# Altium footprint library NUC120全功能主板.PcbLib: 25 footprints (part 2 of 2)
Each footprint in its own frame and in the unit in brackets; x right, y up, seen from the top. Pads: shape width x height; smd on the part's side, far side on the other; paste and mask are expansions set on the pad; w line width, h text height; cw(c..) or ccw(c..) is an arc to the next point about the centre after c.
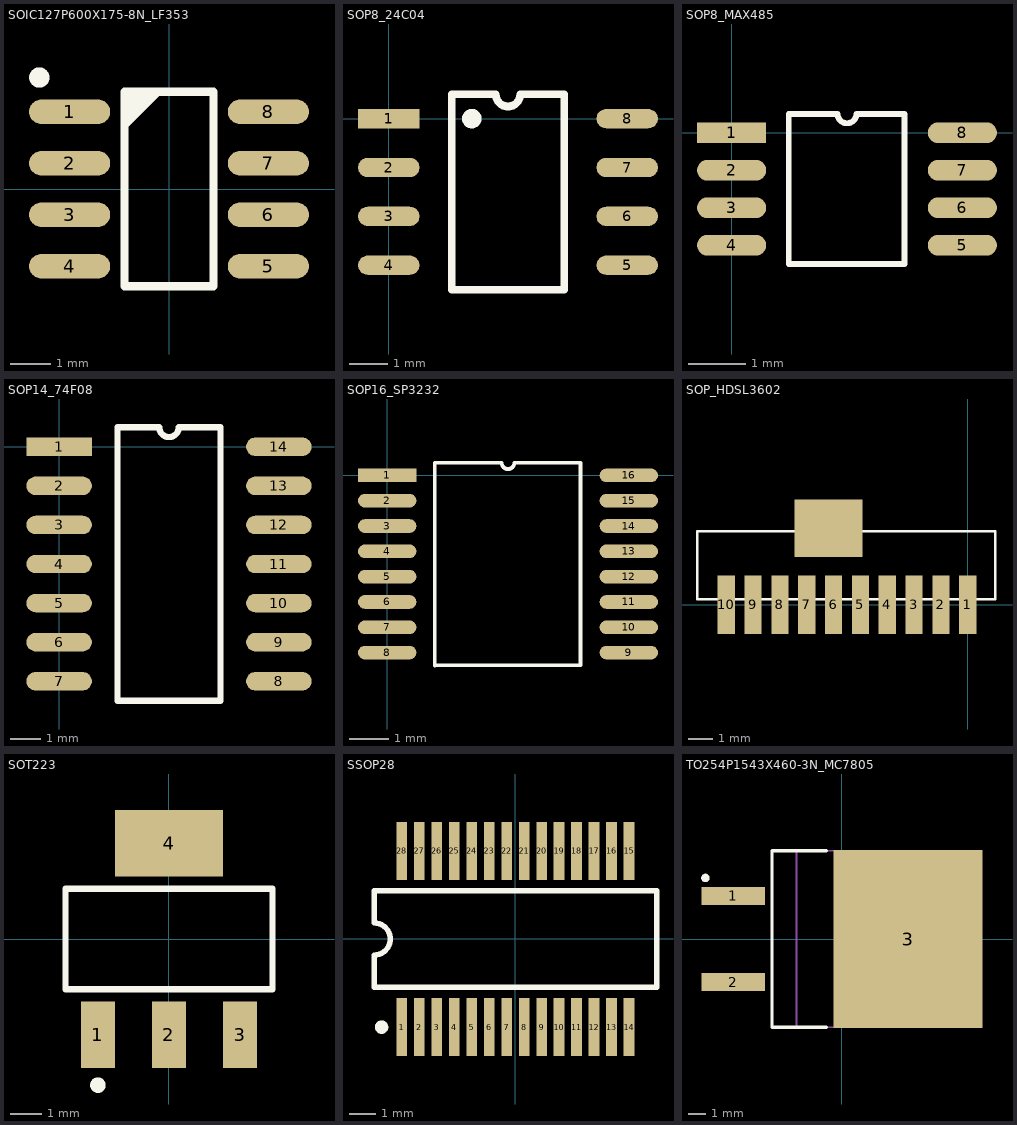
[diagram p1: the footprints below, top view; thin cyan lines are the x and y axes]

## SOIC127P600X175-8N_LF353 [mm]
pads (8):
  oval 2x0.6 smd: 1(-2.45,1.905) 2(-2.45,0.635) 3(-2.45,-0.635) 4(-2.45,-1.905) 5(2.45,-1.905) 6(2.45,-0.635) 7(2.45,0.635) 8(2.45,1.905)
Mid-Layer 2:
  lines w0.05: -0.5,0 0.5,0 ; 0,-0.5 0,0.5 ; -3.7,-2.65 3.7,-2.65 3.7,2.65 -3.7,2.65 -3.7,-2.65
Top Overlay:
  circle w0.25: c-3.2,2.75 r0.125
  lines w0.1: -1.1,1.5 -0.2,2.4 ; -1.1,1.6 -0.3,2.4 ; -1.1,1.7 -0.4,2.4 ; -1.1,1.8 -0.5,2.4 ; -1.1,1.9 -0.6,2.4 ; -1.1,2 -0.7,2.4 ; -1.1,2.1 -0.8,2.4 ; -1.1,2.2 -0.9,2.4 ; -1.1,2.3 -1,2.4
  lines w0.2: -1.1,-2.4 1.1,-2.4 1.1,2.4 -1.1,2.4 -1.1,-2.4

## SOP8_24C04 [mm]
pads (8):
  rect 1.6x0.5 smd: 1(0,0)
  oval 1.6x0.5 smd: 2(0,-1.27) 3(0,-2.54) 4(0,-3.81) 5(6.2,-3.81) 6(6.2,-2.54) 7(6.2,-1.27) 8(6.2,0)
Top Overlay:
  circle w0.254: c2.159,0 r0.127
  lines w0.2: 1.635,-4.445 4.565,-4.445 4.565,0.635 3.417,0.635 cw(c3.1,0.635) 2.782,0.635 1.635,0.635 1.635,-4.445

## SOP8_MAX485 [mm]
pads (8):
  rect 1.2x0.36 smd: 1(0,0)
  oval 1.2x0.36 smd: 2(0,-0.65) 3(0,-1.3) 4(0,-1.95) 5(4,-1.95) 6(4,-1.3) 7(4,-0.65) 8(4,0)
Top Overlay:
  lines w0.1: 0.991,-2.275 2.997,-2.275 2.997,0.325 2.162,0.325 cw(c2,0.325) 1.837,0.325 0.991,0.325 0.991,-2.275

## SOP14_74F08 [mm]
pads (14):
  rect 2.13x0.6 smd: 1(0,0)
  oval 2.13x0.6 smd: 2(0,-1.27) 3(0,-2.54) 4(0,-3.81) 5(0,-5.08) 6(0,-6.35) 7(0,-7.62) 8(7.14,-7.62) 9(7.14,-6.35) 10(7.14,-5.08) 11(7.14,-3.81) 12(7.14,-2.54) 13(7.14,-1.27) 14(7.14,0)
Top Overlay:
  lines w0.2: 1.9,-8.255 5.24,-8.255 5.24,0.635 3.888,0.635 cw(c3.57,0.635) 3.253,0.635 1.9,0.635 1.9,-8.255

## SOP16_SP3232 [mm]
pads (16):
  rect 1.5x0.35 smd: 1(0,0)
  oval 1.5x0.35 smd: 2(0,-0.65) 3(0,-1.3) 4(0,-1.95) 5(0,-2.6) 6(0,-3.25) 7(0,-3.9) 8(0,-4.55) 9(6.2,-4.55) 10(6.2,-3.9) 11(6.2,-3.25) 12(6.2,-2.6) 13(6.2,-1.95) 14(6.2,-1.3) 15(6.2,-0.65) 16(6.2,0)
Top Overlay:
  lines w0.1: 1.219,-4.877 1.219,0.323 ; 1.235,-4.875 4.965,-4.875 4.965,0.325 3.262,0.325 cw(c3.1,0.325) 2.937,0.325 1.235,0.325

## SOP_HDSL3602 [mm]
pads (11):
  rect 0.7x2.4 smd: 1(0,0) 2(-1.1,0) 3(-2.2,0) 4(-3.3,0) 5(-4.4,0) 6(-5.5,0) 7(-6.6,0) 8(-7.7,0) 9(-8.8,0) 10(-9.9,0)
  rect 2.8x2.35 smd: ""(-5.71,3.13)
Top Overlay:
  lines w0.1: -11.084,2.511 -11.09,2.505 ; -11.09,2.505 -11.09,0.219 1.127,0.219 1.127,3.013 -11.09,3.013 -11.09,2.505

## SOT223 [mm] "SOT-223/SC-73; 4 Leads; Body 6.7 x 7.3 mm, inc. leads (LxW max)"
height 1.8
pads (4):
  rect 1.1x2.15 smd: 1(-2.3,-3.1) 2(0,-3.1) 3(2.3,-3.1)
  rect 3.5x2.15 smd: 4(0,3.1)
Top Overlay:
  circle w0.25: c-2.3,-4.725 r0.125
  lines w0.2: -3.35,-1.625 -3.35,1.625 3.35,1.625 3.35,-1.625 -3.35,-1.625

## SSOP28 [mm] "SSOP, Plastic; 28 Leads; Body Width 5.3 mm; Pitch 0.65 mm"
height 2
pads (28):
  rect 0.4x2.15 smd: 1(-4.225,-3.275) 2(-3.575,-3.275) 3(-2.925,-3.275) 4(-2.275,-3.275) 5(-1.625,-3.275) 6(-0.975,-3.275) 7(-0.325,-3.275) 8(0.325,-3.275) 9(0.975,-3.275) 10(1.625,-3.275) 11(2.275,-3.275) 12(2.925,-3.275) 13(3.575,-3.275) 14(4.225,-3.275) 15(4.225,3.275) 16(3.575,3.275) 17(2.925,3.275) 18(2.275,3.275) 19(1.625,3.275) 20(0.975,3.275) 21(0.325,3.275) 22(-0.325,3.275) 23(-0.975,3.275) 24(-1.625,3.275) 25(-2.275,3.275) 26(-2.925,3.275) 27(-3.575,3.275) 28(-4.225,3.275)
Top Overlay:
  circle w0.25: c-4.975,-3.275 r0.125
  lines w0.2: -5.25,-1.8 5.25,-1.8 5.25,1.8 -5.25,1.8 -5.25,0.6 cw(c-5.25,0) -5.25,-0.6 -5.25,-1.8

## TO254P1543X460-3N_MC7805 [mm]
pads (3):
  rect 3.75x1.05 smd: 1(-6.4,2.54) 2(-6.4,-2.54)
  rect 8.8x10.5 smd: 3(3.9,0)
Mid-Layer 2:
  lines w0.05: -0.5,0 0.5,0 ; 0,-0.5 0,0.5 ; -8.55,-5.5 8.55,-5.5 8.55,5.5 -8.55,5.5 -8.55,-5.5
Mid-Layer 3:
  lines w0.001: -2.682,-5.2 6.668,-5.2 6.668,5.2 -2.682,5.2 -2.682,-5.2
Top Overlay:
  circle w0.25: c-8.05,3.6 r0.125
  lines w0.2: -0.925,-5.2 -4.125,-5.2 -4.125,5.2 -0.925,5.2
Top Paste:
  region: -0.06,4.83 1.26,4.83 1.26,3.57 -0.06,3.57
  region: 2.14,4.83 3.46,4.83 3.46,3.57 2.14,3.57
  region: 4.34,4.83 5.66,4.83 5.66,3.57 4.34,3.57
  region: 6.54,4.83 7.86,4.83 7.86,3.57 6.54,3.57
  region: -0.06,2.73 1.26,2.73 1.26,1.47 -0.06,1.47
  region: 2.14,2.73 3.46,2.73 3.46,1.47 2.14,1.47
  region: 4.34,2.73 5.66,2.73 5.66,1.47 4.34,1.47
  region: 6.54,2.73 7.86,2.73 7.86,1.47 6.54,1.47
  region: -0.06,0.63 1.26,0.63 1.26,-0.63 -0.06,-0.63
  region: 2.14,0.63 3.46,0.63 3.46,-0.63 2.14,-0.63
  region: 4.34,0.63 5.66,0.63 5.66,-0.63 4.34,-0.63
  region: 6.54,0.63 7.86,0.63 7.86,-0.63 6.54,-0.63
  region: -0.06,-1.47 1.26,-1.47 1.26,-2.73 -0.06,-2.73
  region: 2.14,-1.47 3.46,-1.47 3.46,-2.73 2.14,-2.73
  region: 4.34,-1.47 5.66,-1.47 5.66,-2.73 4.34,-2.73
  region: 6.54,-1.47 7.86,-1.47 7.86,-2.73 6.54,-2.73
  region: -0.06,-3.57 1.26,-3.57 1.26,-4.83 -0.06,-4.83
  region: 2.14,-3.57 3.46,-3.57 3.46,-4.83 2.14,-4.83
  region: 4.34,-3.57 5.66,-3.57 5.66,-4.83 4.34,-4.83
  region: 6.54,-3.57 7.86,-3.57 7.86,-4.83 6.54,-4.83
Mechanical 15:
  lines w0.1: -2.682,-5.2 6.668,-5.2 6.668,5.2 -2.682,5.2 -2.682,-5.2
  text "1" at 0.45,-0.164 h0.75